# EAGLE library part TPS566250 (library My_TI)
TPS566250 4.5-V to 17-V Input, 6-A Synchronous Step-Down Converter With VID Control.
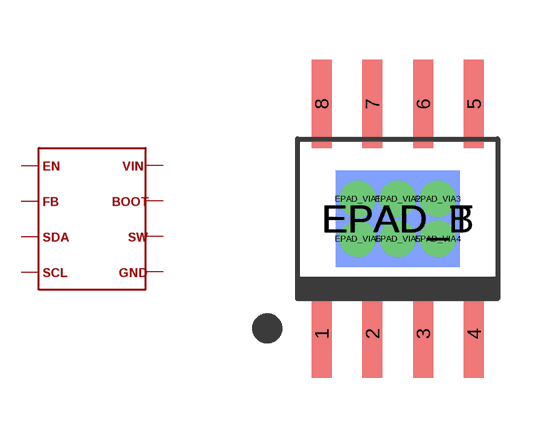
[diagram p32: symbol with the pads of HTSOP8; footprint HTSOP8]

Designator prefix DC/DC

## TPS566250  [HTSOP8]
1  P$1
2  P$2
3  P$3
4  P$4
5  P$5
6  P$6
7  P$7
8  P$8
EPAD_B  P$5
EPAD_T  P$5
EPAD_VIA1  P$5
EPAD_VIA2  P$5
EPAD_VIA3  P$5
EPAD_VIA4  P$5
EPAD_VIA5  P$5
EPAD_VIA6  P$5

## Footprint HTSOP8 (pad centres in mm)
smd 0.5 x 2.2: 1 -1.905,-2.875; 2 -0.635,-2.875; 3 0.635,-2.875; 4 1.905,-2.875; 5 1.905,2.875; 6 0.635,2.875; 7 -0.635,2.875; 8 -1.905,2.875
smd 3.1 x 2.4 bottom: EPAD_B 0,0
smd 3.1 x 2.4: EPAD_T 0,0
drill 0.4: EPAD_VIA1 -1,0.5; EPAD_VIA2 0,0.5; EPAD_VIA3 1,0.5; EPAD_VIA4 1,-0.5; EPAD_VIA5 0,-0.5; EPAD_VIA6 -1,-0.5